# EAGLE library part 46112-0601 (library 46112-0601)
Heavy Duty Power Connectors LPH VERT.POWER ASSY SSY W INTERLOCK 6CKT Source: Datasheet <https://componentsearchengine.com/Datasheets/1/46112-0601.pdf>
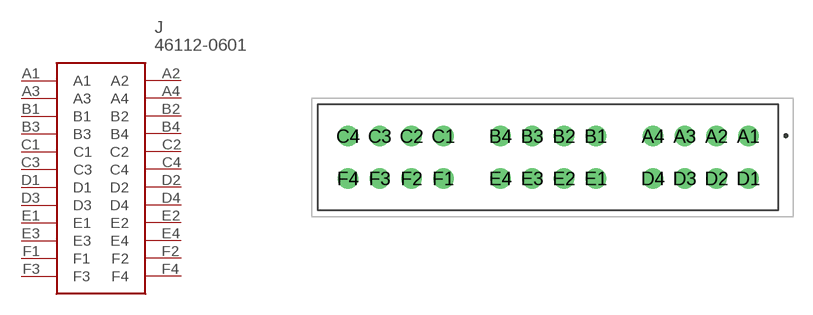
[diagram p0: symbol with the pads of 461120601; footprint 461120601]

Designator prefix J

## 46112-0601 (Description: Heavy Duty Power Connectors LPH VERT.POWER ASSY SSY W INTERLOCK 6CKT; Height: 15.21mm; Manufacturer_Name: Molex; Manufacturer_Part_Number: 46112-0601; Mouser_Part_Number: 538-46112-0601; Mouser_Price-Stock: https://www.mouser.com/Search/Refine.aspx?Keyword=538-46112-0601)  [461120601]
A1  A1
A2  A2
A3  A3
A4  A4
B1  B1
B2  B2
B3  B3
B4  B4
C1  C1
C2  C2
C3  C3
C4  C4
D1  D1
D2  D2
D3  D3
D4  D4
E1  E1
E2  E2
E3  E3
E4  E4
F1  F1
F2  F2
F3  F3
F4  F4

## Footprint 461120601 (pad centres in mm)
46112-0601-1
drill 1.07 pad 1.605: A1 0,0; A2 -2.5,0; A3 -5,0; A4 -7.5,0; B1 -12,0; B2 -14.5,0; B3 -17,0; B4 -19.5,0; C1 -24,0; C2 -26.5,0; C3 -29,0; C4 -31.5,0; D1 0,-3.33; D2 -2.5,-3.33; D3 -5,-3.33; D4 -7.5,-3.33; E1 -12,-3.33; E2 -14.5,-3.33; E3 -17,-3.33; E4 -19.5,-3.33; F1 -24,-3.33; F2 -26.5,-3.33; F3 -29,-3.33; F4 -31.5,-3.33